# Altium schematic symbol library frznmn_sch.SchLib: 86 symbols (part 2 of 2)
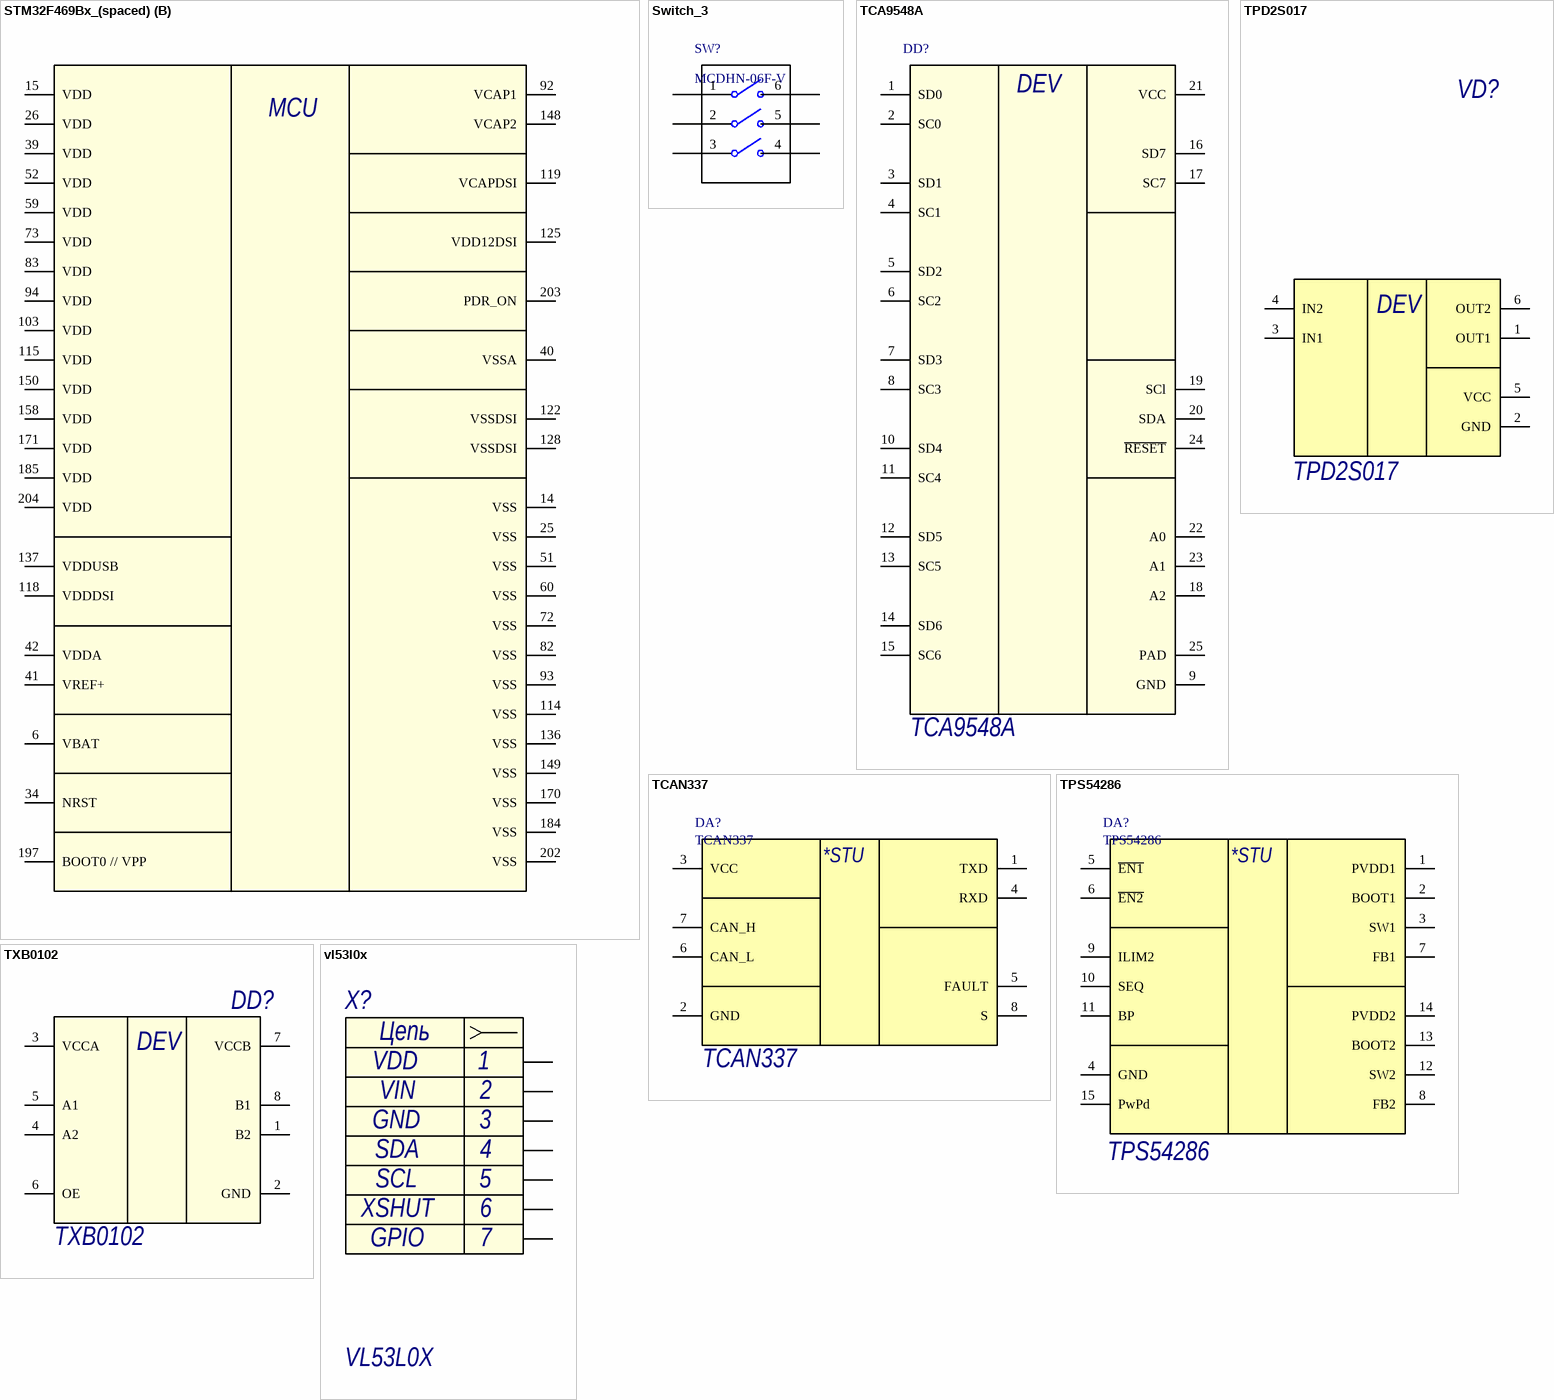
[diagram p16: symbols STM32F469Bx_(spaced) to vl53l0x]

## STM32F469Bx_(spaced)
designator DD?, comment STM32F469BI
Микроконтроллер (разнесённый способ); Manufacturer: STMicroelectronics; Name: STM32F469BI
footprint LQFP208_A
part A pins: 1 PE2 // TRACECLK / SPI4_SCK / SAI1_MCLK_A / QUADSPI_BK1_IO2 / ETH_MII_TXD3 / FMC_A23 / EVENTOUT // FT, 2 PE3 // TRACED0 / SAI1_SD_B / FMC_A19 / EVENTOUT // FT, 3 PE4 // TRACED1 / SPI4_NSS / SAI1_FS_A / FMC_A20 / DCMI_D4 / LCD_B0 / EVENTOUT // FT, 4 PE5 // TRACED2 / TIM9_CH1 / SPI4_MISO / SAI1_SCK_A /  FMC_A21 / DCMI_D6 / LCD_G0 / EVENTOUT // FT, 5 PE6 // TRACED3 / TIM9_CH2 / SPI4_MOSI / SAI_SD_A / FMC_A22 / DCMI_D7 / LCD_G1 / EVENTOUT // FT, 7 PI8 // EVENTOUT // RTC_TAMP1 / RTC_TAMP2 / RTC_TS // FT, 8 PC13 // EVENTOUT // RTC_TAMP1 / RTC_TS / RTC_OUT // FT, 9 PC14 // EVENTOUT // OSC32_IN // FT, 10 PC15 // EVENTOUT // OSC32_OUT // FT, 11 PI9 // CAN1_RX / FMC_D30 / LCD_VSYNC / EVENTOUT // FT, 12 PI10 // ETH_MII_RX_ER / FMC_D31 / LCD_HSYNC / EVENTOUT // FT, 13 PI11 // LCD_G6 / OTG_HS_ULPI_DIR / EVENTOUT // FT, 16 PF0 // I2C2_SDA / FMC_A0 / EVENTOUT // FT, 17 PF1 // I2C2_SCL / FMC_A1 / EVENTOUT // FT, 18 PF2 // I2C2_SMBA / FMC_A2 / EVENTOUT // FT, 19 PI12 // LCD_HSYNC / EVENTOUT // FT, 20 PI13 // LCD_VSYNS / EVENTOUT // FT, 21 PI14 // LCD_CLK / EVENTOUT // FT, 22 PF3 // FMC_A3 / EVENTOUT // ADC3_IN9 // FT, 23 PF4 // FMC_A4 / EVENTOUT // ADC3_IN14 // FT, 24 PF5 // FMC_A5 / EVENTOUT // ADC3_IN15 // FT, 27 PF6 // TIM10_CH1 / SPI5_NSS / SAI1_SD_B / UART7_Rx / QUADSPI_BK1_IO3 / EVENTOUT // ADC3_IN4 // FT, 28 PF7 // TIM11_CH1 / SPI5_SCK / SAI4_MCLK_B / UART7_Tx / QUADSPI_BK1_IO2 / EVENTOUT // ADC3_IN5 // FT, 29 PF8 // SPI5_MISO / SAI1_SCK_B / TIM13_CH1 / QUADSPI_BK1_IO0 / EVENTOUT // ADC3_IN6 // FT, 30 PF9 // SPI5_MOSI / SAI1_FS_B / TIM14_CH1 / QUADSPI_BK1_IO1 / EVENTOUT // ADC3_IN7 // FT, 31 PF10 // QUADSPI_CLK / DCMI_D11 / LCD_DE / EVENTOUT // ADC3_IN8 // FT, 32 PH0 // EVENTOUT // OSC_IN // FT, 33 PH1 // EVENTOUT // OSC_OUT // FT, 35 PC0 // OTG_HS_ULPI_STP / FMC_SDNWE / LCD_R5 / EVENTOUT // ADC123_IN10 // FT, 36 PC1 // TRACED0 / SPI2_MOSI / I2S2_SD / SAI1_SD_A / ETH_MDC / EVENTOUT // ADC123_IN11 // FT, 37 PC2 // SPI2_MISO / I2S2ext_SD / OTG_HS_ULPI_DIR / ETH_MII_TXD2 / FMC_SDNE0 / EVENTOUT // ADC123_IN12 // FT, 38 PC3 // SPI2_MOSI / I2S2_SD / OTG_HS_ULPI_NXT / ETH_MII_TX_CLK / FMC_SDCKE0 / EVENTOUT // ADC123_IN13 // FT, 43 PA0 // TIM2_CH1 / TIM2_ETR / TIM5_CH1 / TIM8_ETR / USART2_CTS / UART4_TX / ETH_MII_CRS / EVENTOUT // ADC123_IN0 / WKUP // FT, 44 PA1 // TIM2_CH2 / TIM5_CH2 / USART2_RTS / UART4_RX / QUADSPI_BK1_IO3 / LCD_R2 / EVENTOUT // ADC123_IN1 // FT, 45 PA2 // TIM2_CH3 / TIM5-CH3 / TIM9_CH1 / USART2_TX / ETH_MDIO / LCD_R1 / EVENTOUT // ADC123_IN2 // FT, 46 PH2 // QUADSPI_BK2_IO0 / ETH_MII_CRS / FMC_SDCKE0 / LCD_R0 / EVENTOUT // FT, 47 PH3 // QUADSPI_BK2_IO1 / ETH_MII_COL / FMC_SDNE0 / LCD_R1 / EVENTOUT // FT, 48 PH4 // I2C2_SCL / LCD_G5 / OTG_HS_ULPI_NXT / LCD_G4 / EVENTOUT // FT, 49 PH5 // I2C2_SDA / SPI5_NSS / FMC_SDNWE / EVENTOUT // FT, 50 PA3 // TIM2_CH4 / TIM5_CH4 / TIM9_CH2 / USART2_RX / LCD_B2 / OTG_HS_ULPI_D0 / ETH_MII_COL / LCD_B5 / EVENTOUT // ADC123_IN3 // FT, 53 PA4 // SPI1_NSS / SPI3_NSS / I2S3_WS / USART2_CK / OTG_HS_SOF / DCMI_HSYNC / LCD_VSYNC / EVENTOUT // ADC12_IN5 / DAC_OUT2 // FT, 54 PA5 // TIM2_CH1 / TIM2_ETR / TIM8_CH1N / SPI1_SCK / OTG_HS_ULPI_CK / LCD_R4 / EVENTOUT // ADC12_IN5 / DAC_OUT2 // FT, 55 PA6 // TIM1_BKIN / TIM3_CH1 / TIM8_BKIN / SPI1_MISO / TIM13_CH1 / DCMI_PIXCLK / LCD_G2 / EVENTOUT // ADC12_IN6 // FT, 56 PA7 // TIM1_CH1N / TIM3_CH2 / TIM8_CH1N / SPI1_MOSI / TIM14_CH1 / QUADSPI_CLK /  EVENTOUT // ADC12_IN7 // FT, 57 PC4 // ETH_MII_RXD0 / ETH_RMII_RXD0 / FMC_SDNE0 / EVENTOUT // ADC12_IN14 // FT, 58 PC5 // ETH_MII_RXD1 / ETH_RMII_RXD1 / FMC_SDCKE0 / EVENTOUT // ADC12_IN15 // FT, 61 PB0 // TIM1_CH2N / TIM3_CH3 / TIM8_CH2N / LCD_R3 / OTG_HS_ULPI_D1 / ETH_MII_RXD2 / LCD_G1 / EVENTOUT // ADC12_IN8 // FT, 62 PB1 // TIM1_CH3N / TIM3_CH4 / TIM8_CH3N / LCD_R6 / OTG_HS_ULPI_D2 / ETH_MII_RXD3 / LCD_G0 / EVENTOUT // ADC12_IN9 // FT, 63 PB2 // BOOT1 / EVENTOUT // FT, 64 PI15 // LCD_G2 / LCD_R0 / EVENTOUT // FT, 65 PJ0 // LCD_R7 / LCD_R1 / EVENTOUT // FT, 66 PJ1 // LCD_R2 / EVENTOUT // FT, 67 PJ2 // DSIHOST_TE / LCD_R3 / EVENTOUT // FT, 68 PJ3 // LCD_R4 / EVENTOUT // FT, 69 PJ4 // LCD_R5 / EVENTOUT // FT, 70 PF11 // SPI5_MOSI / FMC_SDNRAS / DCMI_D12 / EVENTOUT // FT, 71 PF12 // FMC_A6 / EVENTOUT // FT, 74 PF13 // FMC_A7 / EVENTOUT // FT, 75 PF14 // FMC_A8 / EVENTOUT // FT, 76 PF15 // FMC_A9 / EVENTOUT // FT, 77 PG0 // FMC_A10 / EVENTOUT // FT, 78 PG1 // FMC_A11 / EVENTOUT // FT, 79 PE7 // TIM1_ETR / UART7_RX / QUADSPI_BK2_IO0 / FMC_D4 / EVENTOUT // FT, 80 PE8 // TIM1_CH1N / UART7_Tx / QUADSPI_BK2_IO1 / FMC_D5 / EVENTOUT // FT, 81 PE9 // TIM1_CH1 / QUADSPI_BK2_IO2 / FMC_D6 / EVENTOUT // FT, 84 PE10 // TIM1_CH2N / QUADSPI_BK2_IO3 / FMC_D7 / EVENTOUT // FT, 85 PE11 // TIM1_CH2 / SPI4_NSS / FMC_D8 / LCD_G3 / EVENTOUT // FT, 86 PE12 // TIM1_CH3N / SPI4_SCK / FMC_D9 / LCD_B4 / EVENTOUT // FT, 87 PE13 // TIM1_CH3 / SPI4_MISO / FMC_D10 / LCD_DE / EVENTOUT // FT, 88 PE14 // TIM1_CH4 / SPI4_MOSI / FMC_D11 / LCD_CLK / EVENTOUT // FT, 89 PE15 // TIM1_BKIN / FMC_D12 / LCD_R7 / EVENTOUT // FT, 90 PB10 // TIM2_CH3 / I2C2_SCL / SPI2_SCK / I2S2_CK / USART3_TX / QUADSPI_BK1_NCS /  LCD_G4 / EVENTOUT // FT, 91 PB11 // TIM2_CH4 / I2C2_SDA / USART3_RX / OTG_HS_ULPI_D4 / ETH_MII_TX_EN / ETH_RMII_TX_EN / DSIHOST_TE / LCD_G5 / EVENTOUT // FT, 95 PJ5 // LCD_R6 / EVENTOUT // FT, 96 PH6 // I2C2_SMBA / SPI5_SCK / TIM12_CH1 / ETH_MII_RXD2 / FMC_SDNE1 / DCMI_D8 / EVENTOUT // FT, 97 PH7 // I2C3_SCL / SPI5_MISO / ETH_MII_RXD3 / FMC_SDCKE1 / DCMI_D9 / EVENTOUT // FT, 98 PH8 // I2C3_SDA / FMC_D16 / DCMI_HSYNC / LCD_R2 / EVENTOUT // FT, 99 PH9 // I2C3_SMBA / TIM12_CH2 / FMC_D17 / DCMI_D0 / LCD_R3 / EVENTOUT // FT, 100 PH10 // TIM5_CH1 / FMC_D18 / DCMI_D1 / LCD_R4 / EVENTOUT // FT, 101 PH11 // TIM5_CH2 / FMC_D19 / DCMI_D2 / LCD_R5 / EVENTOUT // FT, 102 PH12 // TIM5_CH3 / FMC_D20 / DCMI_D3 / LCD_R6 / EVENTOUT // FT, 104 PB12 // TIM1_BKIN / I2C2_SMBA / SPI2_NSS / I2S2_WS / USART3_CK / CAN2_RX / OTG_HS_ULPI_D5 / OTG_HS_ID / EVENTOUT // FT, 105 PB13 // TIM1_CH1N / SPI2_SCK / I2S2_CK / USART3_CTS / CAN2_TX / OTG_HS_ULPI_D6 / EVENTOUT // OTG_HS_VBUS // FT, 106 PB14 // TIM1_CH2N / TIM8_CH2N / SPI2_MISO / I2S2ext_SD / USART3_RTS / TIM12_CH1 / OTG_HS_DM / EVENTOUT // FT, 107 PB15 // RTC_REFIN / TIM1_CH3N / TIM8_CH3N / SPI2_MOSI / I2S2_SD / TIM12_CH2 / OTG_HS_DP / EVENTOUT // FT, 108 PD8 // USART3_TX / FMC_D13 / EVENTOUT // FT, 109 PD9 // USART3_RX / FMC_D14 / EVENTOUT // FT, 110 PD10 // USART3_CK / FMC_D15 / LCD_B3 / EVENTOUT // FT, 111 PD11 / USART3_CTS / QUADSPI_BK1_IO0 / FMC_A6 / FMC_CLE / EVENTOUT // FT, 112 PD12 // TIM4_CH1 / USART3_RTS / QUADSPI_BK1_IO1 / FMC_A17 / FMC_ALE / EVENTOUT // FT, 113 PD13 // TIM4_CH2 / QUADSPI_BK1_IO3 / FMC_A18 / EVENTOUT // FT, 116 PD14 // TIM4_CH3 / FMC_D0 / EVENTOUT // FT, 117 PD15 // TIM4_CH4 / FMC_D1 / EVENTOUT // FT, 120 DSIHOST_D0P, 121 DSIHOST_D0N, 123 DSIHOST_CKP, 124 DSIHOST_CKN, 126 DSIHOST_D1P, 127 DSIHOST_D1N, 129 PG2 // FMC_A12 / EVENTOUT // FT, 130 PG3 // FMC_A13 / EVENTOUT // FT, 131 PG4 // FMC_A14 / FMC_BA0 / EVENTOUT // FT, 132 PG5 // FMC_A15 / FMC_BA1 / EVENTOUT // FT, 133 PG6 // DCMI_D12 / LCD_R7 / EVENTOUT // FT, 134 PG7 // SAI1_MCLK_A / USART6_CK / FMC_INT / DCMI_D13 / LCD_CLK / EVENTOUT // FT, 135 PG8 // SPI6_NSS / USART6_RTS / ETH_PPS_OUT / FMC_SDCLK / LCD_G7 / EVENTOUT // FT, 138 PC6 / TIM3_CH1 / TIM8_CH1 / I2S2_MCK / USART6_TX / SDIO_D6 / DCMI_D0 / LCD_HSYNC / EVENTOUT // FT, 139 PC7 // TIM3_CH2 / TIM8_CH2 / I2S3_MCK / USART6_RX / SDIO_D7 / DCMI_D1 / LCD_G6 / EVENTOUT // FT, 140 PC8 // TRACED1 / TIM3_CH3 / TIM8_CH3 / USART6_CK / SDIO_D0 / DCMI_D2 / EVENTOUT // FT, 141 PC9 // MCO2 / TIM3_CH4 / TIM8_CH4 / I2C3_SDA / I2S_CKIN / QUDSPI_BK1_IO0 / SDIO_D1 / DCMI_D3 / EVENTOUT // FT, 142 PA8 // MCO1 / TIM1_CH1 / I2C3_SLC / USART1_CK / OTG_FS_SOF / LCD_R6 / EVENTOUT // FT, 143 PA9 // TIM1_CH2 / I2C3_SMBA / SPI2_SCK / I2S2_CK / USART1_TX / DCMI_D0 / EVENTOUT // OTG_FS_VBUS // FT, 144 PA10 // TIM1_CH3 / USART1_RX / OTG_FS_ID / DCMI_D1 / EVENTOUT // FT, 145 PA11 // TIM1_CH4 / USART1_CTS / CAN1_RX / OTG_FS_DM / LCD_R4 / EVENTOUT // FT, 146 PA12 // TIM1_ETR / USART1_RTS / CAN1_TX / OTG_FS_DP / LCD_R5 / EVENTOUT // FT, 147 PA13 // JTMS-SWDIO / EVENTOUT // FT, 151 PH13 // TIM8_CH1N / CAN1_TX / FMC_D21 / LCD_G2 / EVENTOUT // FT, 152 PH14 // TIM8_CH2N / FMC_D22 / DCMI_D4 / LCD_G3 / EVENTOUT // FT, 153 PH15 // TIM8_CH3N / FMC_D23 / DCMI_D11 / LCD_G4 / EVENTOUT // FT, 154 PI0 // TIM5_CH4 / SPI2_NSS / I2S2_WS / FMC_D24 / DCMI_D13 / LCD_G5 / EVENTOUT // FT, 155 PI1 // SPI2_SCK / I2S2_CK / FMC_D25 / DCMI_D8 / LCD_G6 / EVENTOUT // FT, 156 PI2 // TIM8_CH4 / SPI2_MISO / I2S2EXT_SD / FMC_D26 / DCMI_D9 / LCD_G7 / EVENTOUT // FT, 157 PI3 // TIM8_ETR / SPI2_MOSI / I2S2_SD / FMC_D27 / DCMI_D10 / EVENTOUT // FT, 159 PA14 // JTCK-SWCLK / EVENTOUT // FT, 160 PA15 // JTDI / TIM2_CH1 / TIM2_ETR / SPI1_NSS / SPI3_NSS / I2S3_WS / EVENTOUT // FT, 161 PC10 // SPI3_SCK / I2S3_CK / USART3_TX / UART4_TX / QUADSPI_BK1_IO1 / SDIO_D2 / DCMI_D8 / LCD_R2 / EVENTOUT // FT, 162 PC11 // I2S3EXT_SD / SPI3_MISO / USART3_RX / UART4_RX / QUADSPI_BK2_NCS / SDIO_D3 / DCMI_D4 / EVENTOUT // FT, 163 PC12 // TRACED3 / SPI3_MOSI / I2S3_SD / USART3_CK / UART5_TX / SDIO_CK / DCMI_D9 / EVENTOUT // FT, 164 PD0 // CAN1_RX / FMC_D2 / EVENTOUT // FT, 165 PD1 // CAN1_TX / FMC_D3 / EVENTOUT // FT, 166 PD2 // TRACED2 / TIM3_ETR / UART5_RX / SDIO_CMD / DCMI_D11 / EVENTOUT // FT, 167 PD3 // SPI2_SCK / I2S2_CK / USART2_CTS / FMC_CLK / DCMI_D5 / LCD_G7 / EVENTOUT // FT, 168 PD4 // USART2_RTS / FMC_NOE / EVENTOUT // FT, 169 PD5 // USART2_TX / FMC_NWE / EVENTOUT // FT, 172 PD6 // SPI3_MOSI / I2S3_SD / SAI1_SD_A / USART2_RX / FMC_NWAIT / DCMI_D10 / LCD_B2 / EVENTOUT // FT, 173 PD7 // USART2_CK / FMC_NE1 / EVENTOUT // FT, 174 PJ12 // LCD_G3 / LCD_B0 / EVENTOUT // FT, 175 PJ13 // LCD_G4 / LCD_B1 / EVENTOUT // FT, 176 PJ14 // LCD_B2 / EVENTOUT // FT, 177 PJ15 // LCD_B3 / EVENTOUT // FT, 178 PG9 // USART6_RX / QUADSPI_BK2_IO2 / FMC_NE2 / FMC_NCE / DCMI_VSYNC / EVENTOUT // FT, 179 PG10 // LCD_G3 / FMC_NE3 / DCMI_D2 / LCD_B2 / EVENTOUT // FT, 180 PG11 // ETH_MII_TX_EN / ETH_RMII_TX_EN / DCMI_D3 / LCD_B3 / EVENTOUT // FT, 181 PG12 // SPI6_MISO / USART6_RTS / LCD_B4 / FMC_NE4 / LCD_B1 / EVENTOUT // FT, 182 PG13 // TRACED0 / SPI6_SCK / USART6_CTS / ETH_MII_TXD0 / ETH_RMII_TXD0 / FMC_A24 / LCD_R0 / EVENTOUT // FT, 183 PG14 // TRACED1 / SPI6_MOSI / USART6_TX / QUDSPI_BK2_IO3 / ETH_MII_TXD1 / ETH_RMII_TXD1 / FMC_A25 / LCD_B0 / EVENTOUT // FT, 186 PK3 // LCD_B4 / EVENTOUT // FT, 187 PK4 // LCD_B5 / EVENTOUT // FT, 188 PK5 // LCD_B6 / EVENTOUT // FT, 189 PK6 // LCD_B7 / EVENTOUT // FT, 190 PK7 // LCD_DE / EVENTOUT // FT, 191 PG15 // USART6_CTS / FMC_SDNCAS / DCMI_D13 / EVENTOUT // FT, 192 PB3 // JTDO / TRACESWO / TIM2_CH2 / SPI1_SCK / SPI3_SCK / I2S3_CK / EVENTOUT // FT, 193 PB4 // NJTRST / TIM3_CH1 / SPI1_MISO / SPI3_MISO / I2S3ext_SD / EVENTOUT // FT, 194 PB5 // TIM3_CH2 / I2C1_SMBA / SPI1_MOSI / SPI3_MOSI / I2S3_SD / CAN2_RX / OTG_HS_ULPI_D7 / DCMI_D10 / LCD_G7 / EVENTOUT // FT, 195 PB6 // TIM4_CH1 / I2C1_SCL / USART1_TX / CAN2_TX / QUADSPI_BK1_NCS / FMC_SDNE1 / DCMI_D5 / EVENTOUT // FT, 196 PB7 // TIM4_CH2 / I2C1_SDA / USART1_RX / FMC_NL / DCMI_VSYNC / EVENTOUT // FT, 198 PB8 // TIM4_CH3 / TIM10_CH1 / I2C1_SCL / CAN1_RX / ETH_MII_TXD3 / SDIO_D4 / DCMI_D6 / LCD_B6 / EVENTOUT // FT, 199 PB9 // TIM4_CH4 / TIM11_CH1 / I2C1_SDA / SPI2_NSS / I2S2_WS / CAN1_TX / SDIO_D5 / DCMI_D7 / LCD_B7 / EVENTOUT // FT, 200 PE0 // TIM4_ETR / UART8_RX / FMC_NBL0 / DCMI_D2 / EVENTOUT // FT, 201 PE1 // UART8_TX / FMC_NBL1 / DCMI_D3 / EVENTOUT // FT, 205 PI4 // TIM8_BKIN / FMC_NBL2 / DCMI_D5 / LCD_B4 / EVENTOUT // FT, 206 PI5 // TIM8_CH1 / FMC_NBL3 / DCMI_VSYNC / LCD_B5 / EVENTOUT // FT, 207 PI6 // TIM8_CH2 / FMC_D28 / DCMI_D6 / LCD_B6  / EVENTOUT // FT, 208 PI7 // TIM8_CH3 / FMC_D29 / DCMI_D7 / LCD_B7 / EVENTOUT // FT
part B pins: 6 VBAT, 14 VSS, 15 VDD, 25 VSS, 26 VDD, 34 NRST, 39 VDD, 40 VSSA, 41 VREF+, 42 VDDA, 51 VSS, 52 VDD, 59 VDD, 60 VSS, 72 VSS, 73 VDD, 82 VSS, 83 VDD, 92 VCAP1, 93 VSS, 94 VDD, 103 VDD, 114 VSS, 115 VDD, 118 VDDDSI, 119 VCAPDSI, 122 VSSDSI, 125 VDD12DSI, 128 VSSDSI, 136 VSS, 137 VDDUSB, 148 VCAP2, 149 VSS, 150 VDD, 158 VDD, 170 VSS, 171 VDD, 184 VSS, 185 VDD, 197 BOOT0 // VPP, 202 VSS, 203 PDR_ON, 204 VDD
part A text: MCU
part B text: MCU

## Switch_3
designator SW?, comment MCDHN-06F-V
Переключатель 4 поз.; Name: MCDHN-06F-V
footprint A6S4102H
pins: 1, 2, 3, 4, 5, 6

## TCA9548A
designator DD?
8-channel I2C switch; Name: TCA9548A
footprint VQFN-24
pins: 1 SD0, 2 SC0, 3 SD1, 4 SC1, 5 SD2, 6 SC2, 7 SD3, 8 SC3, 9 GND, 10 SD4, 11 SC4, 12 SD5, 13 SC5, 14 SD6, 15 SC6, 16 SD7, 17 SC7, 18 A2, 19 SCl, 20 SDA, 21 VCC, 22 A0, 23 A1, 24 ~{RESET}, 25 PAD
text: DEV

## TCAN337
designator DA?
High Speed CAN Physical Layer standard; Name: TCAN337
pins: 1 TXD, 2 GND, 3 VCC, 4 RXD, 5 FAULT, 6 CAN_L, 7 CAN_H, 8 S
text: *STU

## TPD2S017
designator VD?
Сборка защиты от ЭСР 2-хканальная; Manufacturer: Texas Instruments; Package: SOT23-6; Name: TPD2S017
footprint SOT23-6
pins: 1 OUT1, 2 GND, 3 IN1, 4 IN2, 5 VCC, 6 OUT2
text: DEV

## TPS54286
designator DA?
DC/DC, Dual 2A; Name: TPS54286
pins: 1 PVDD1, 2 BOOT1, 3 SW1, 4 GND, 5 ~{EN1}, 6 ~{EN2}, 7 FB1, 8 FB2, 9 ILIM2, 10 SEQ, 11 BP, 12 SW2, 13 BOOT2, 14 PVDD2, 15 PwPd
text: *STU

## TXB0102
designator DD?
2-ух канальный согласователь логических уровней; Manufacter: Texas Instruments; Name: TXB0102
footprint VSSOP8 (VSSOP 8 pin)
pins: 1 B2, 2 GND, 3 VCCA, 4 A2, 5 A1, 6 OE, 7 VCCB, 8 B1
text: DEV

## vl53l0x
designator X?, comment VL53L0X
Лазерный дальномер; Contact_1: VDD; Contact_2: VIN; Contact_3: GND; Contact_4: SDA; Contact_5: SCL; Contact_6: XSHUT; Contact_7: GPIO; Name: VL53L0X
footprint VL53L0X (Лазерный дальномер)
pins: 1, 2, 3, 4, 5, 6, 7
text: Цепь

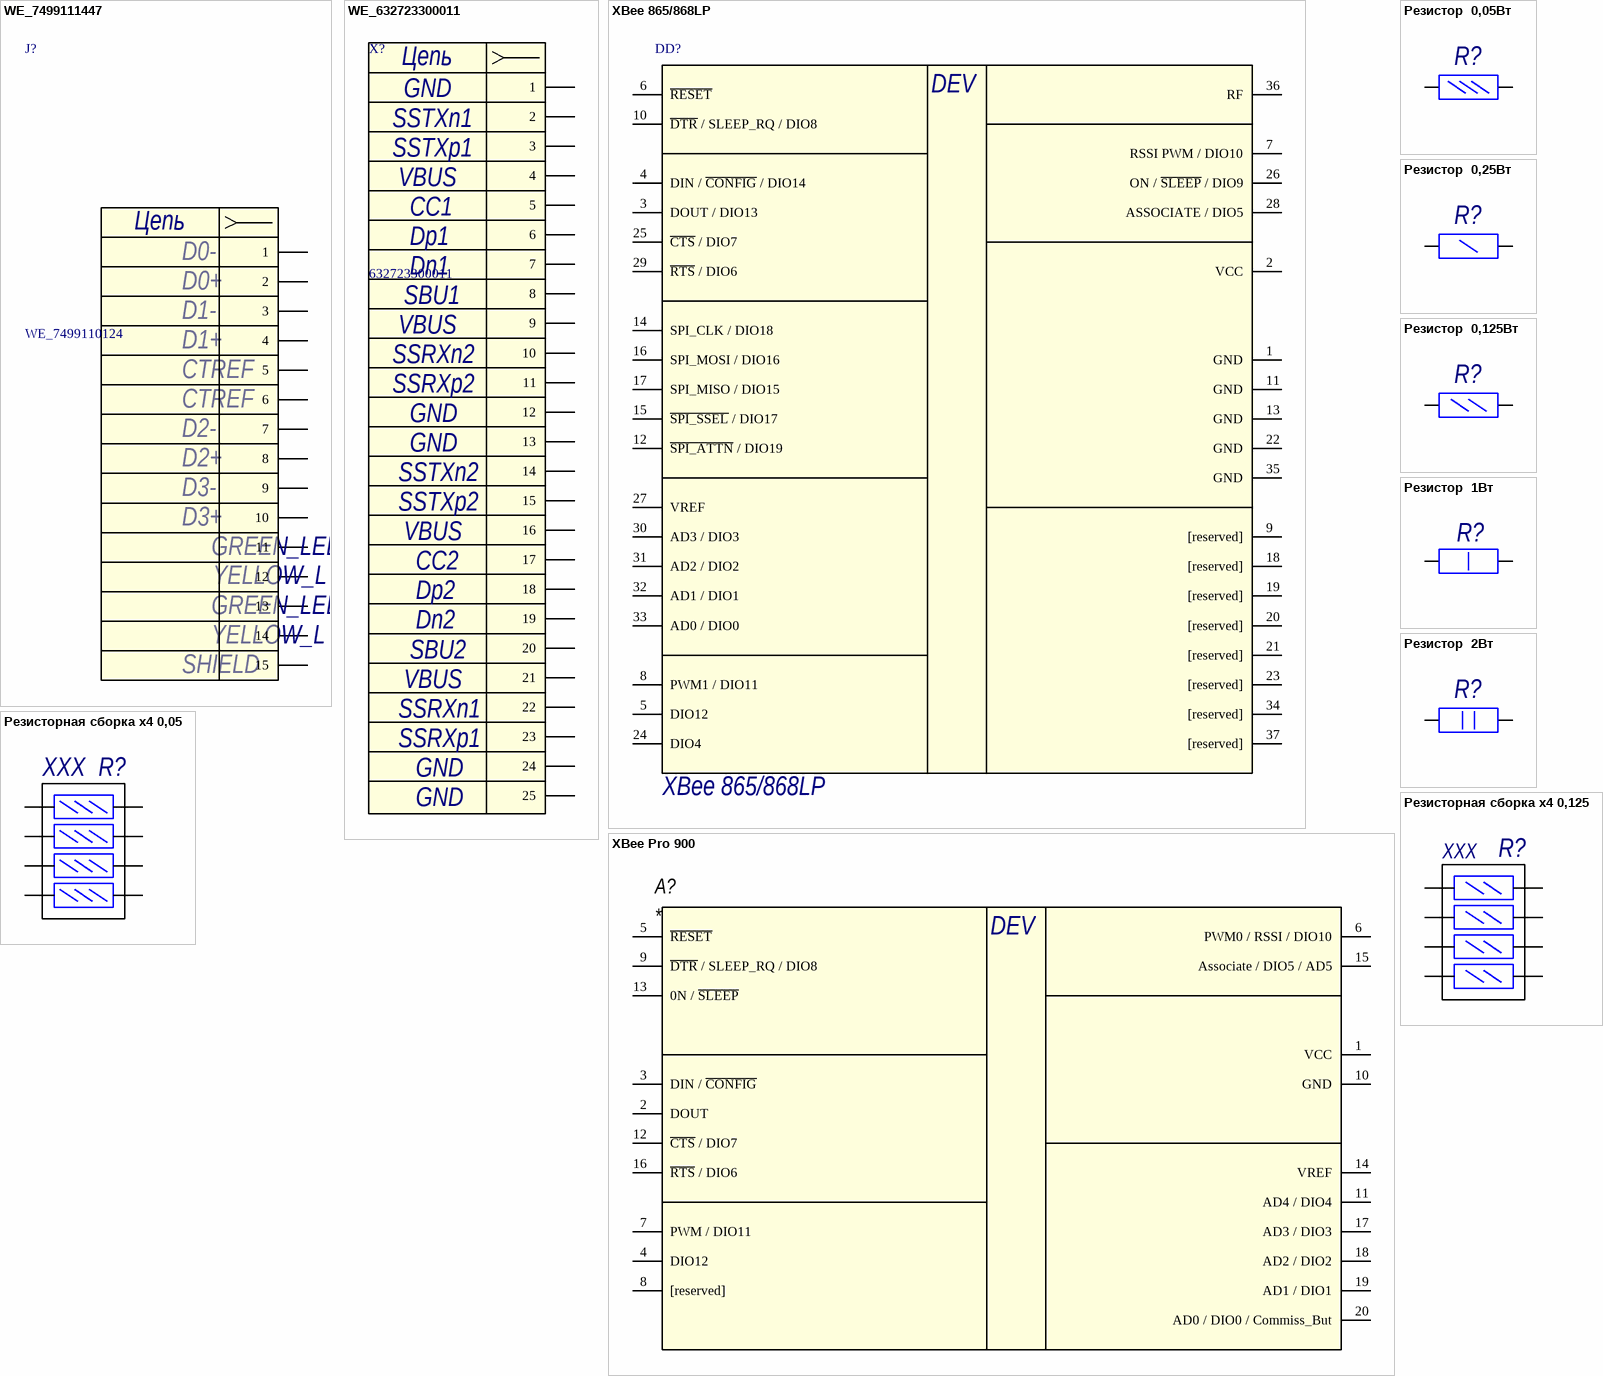
[diagram p15: symbols WE_7499111447 to Резисторная сборка х4 0,125]

## WE_7499111447
designator J?, comment WE_7499110124
LAN-Transformer WE-RJ45LAN 10/100/1000 BaseT; Manufacturer: Wurth Elektronik; Contact1: D0-; Contact2: D0+; Contact3: D1-; Contact4: D1+; Contact5: CTREF; Contact7: D2-; Contact8: D2+; Contact9: D3-; Contact10: D3+; Contact11: GREEN_LED; Contact12: YELLOW_L; Contact15: SHIELD; PartNumber: WE_7499110124; Value: WE_7499110124; PartSymbol: WE_7499110124; Contact6: CTREF; Contact13: GREEN_LED; Contact14: YELLOW_L
footprint WE_7499110124
pins: 1, 2, 3, 4, 5, 6, 7, 8, 9, 10, 11, 12, 13, 14, S 15
text: Цепь

## WE_632723300011
designator X?, comment 632723300011
USB 3.1 Type C Receptacle Horizontal THR WR-COM; PartNumber: WE_632723300011; Manufacturer: WURTH ELEKTRONIK; Value: 632723300011; PartSymbol: 632723300011
footprint WE_632723300011 (USB 3.1 Type C Receptacle Horizontal THR)
pins: A1 1, A2 2, A3 3, A4 4, A5 5, A6 6, A7 7, A8 8, A9 9, A10 10, A11 11, A12 12, B1 13, B2 14, B3 15, B4 16, B5 17, B6 18, B7 19, B8 20, B9 21, B10 22, B11 23, B12 24, Shell 25
text: Цепь; GND; SSTXn1; SSTXp1; VBUS; CC1; Dp1; Dn1; SBU1; SSRXn2; SSRXp2; SSTXn2; SSTXp2; CC2; Dp2; Dn2; SBU2; SSRXn1; SSRXp1

## XBee 865/868LP
designator DD?
Радиомодуль; Name: XBee 865/868LP
footprint XB868LP
pins: 1 GND, 2 VCC, 3 DOUT / DIO13, 4 DIN / ~{CONFIG} / DIO14, 5 DIO12, 6 ~{RESET}, 7 RSSI PWM / DIO10, 8 PWM1 / DIO11, 9 [reserved], 10 ~{DTR} / SLEEP_RQ / DIO8, 11 GND, 12 ~{SPI_ATTN} / DIO19, 13 GND, 14 SPI_CLK / DIO18, 15 ~{SPI_SSEL} / DIO17, 16 SPI_MOSI / DIO16, 17 SPI_MISO / DIO15, 18 [reserved], 19 [reserved], 20 [reserved], 21 [reserved], 22 GND, 23 [reserved], 24 DIO4, 25 ~{CTS} / DIO7, 26 ON / ~{SLEEP} / DIO9, 27 VREF, 28 ASSOCIATE / DIO5, 29 ~{RTS} / DIO6, 30 AD3 / DIO3, 31 AD2 / DIO2, 32 AD1 / DIO1, 33 AD0 / DIO0, 34 [reserved], 35 GND, 36 RF, 37 [reserved]
text: DEV

## XBee Pro 900
designator A?
Радиомодуль; Manufacturer: Digi International; Manufacturer Part Number: XBP09-DMUIT-156; Voltage - Supply: 3 V ~ 3.6 V; Frequency: 900MHz; Modulation or Protocol: FHSS; Sensitivity: -100dBm; Data Rate (Max): 156kbps; Current - Receiving: 80mA; Current - Transmitting: 210mA; Data Interface: PCB, Through Hole; Antenna Connector: U.FL; Power - Output: 17dBm (50mW); Supplier 1: Digi-Key; Supplier: Digi-Key; RoHS: RoHS Compliant; Applications: Wireless Mesh Networks; Memory Size: -; Operating Temperature: -40°C ~ 85°C; Package / Case: Module; Category: RF/IF and RFID; Packaging: Bulk; Supplier Part Number 1: 602-1131-ND; Supplier Part Number: 602-1131-ND
pins: 1 VCC, 2 DOUT, 3 DIN / ~{CONFIG}, 4 DIO12, 5 ~{RESET}, 6 PWM0 / RSSI / DIO10, 7 PWM / DIO11, 8 [reserved], 9 ~{DTR} / SLEEP_RQ / DIO8, 10 GND, 11 AD4 / DIO4, 12 ~{CTS} / DIO7, 13 0N / ~{SLEEP}, 14 VREF, 15 Associate / DIO5 / AD5, 16 ~{RTS} / DIO6, 17 AD3 / DIO3, 18 AD2 / DIO2, 19 AD1 / DIO1, 20 AD0 / DIO0 / Commiss_But
text: DEV

## Резистор  0,05Вт
designator R?
Резистор 0,05Вт; Power rating: 0,05Вт
footprint R0402 (Резистор 0402)
footprint R0603
footprint R0805 (Chip Resistor, 2-Leads, Body 2,10x1,30mm, IPC Medium Density)
footprint R1206
pins: 1, 2

## Резистор  0,25Вт
designator R?
Резистор 0,25Вт; Power rating: 0,25Вт
pins: 1, 2

## Резистор  0,125Вт
designator R?
Резистор  0,125Вт; Power rating: 0,125Вт
pins: 1, 2

## Резистор  1Вт
designator R?
Резистор  1Вт; Power rating: 1Вт
pins: 1, 2

## Резистор  2Вт
designator R?
Резистор  2Вт; Power rating: 2Вт
pins: 1, 2

## Резисторная сборка х4 0,05
designator R?, comment XXX
Резисторы 0,05Вт; Value: XXX
footprint R0603X4
pins: 1, 2, 3, 4, 5, 6, 7, 8

## Резисторная сборка х4 0,125
designator R?, comment XXX
Резисторы  0,125Вт; Value: XXX
pins: 1, 2, 3, 4, 5, 6, 7, 8